# Altium footprint library 晶振SMD-5032.PcbLib: 1 footprints
Each footprint in its own frame and in the unit in brackets; x right, y up, seen from the top. Pads: shape width x height; smd on the part's side, far side on the other; paste and mask are expansions set on the pad; w line width, h text height; cw(c..) or ccw(c..) is an arc to the next point about the centre after c.
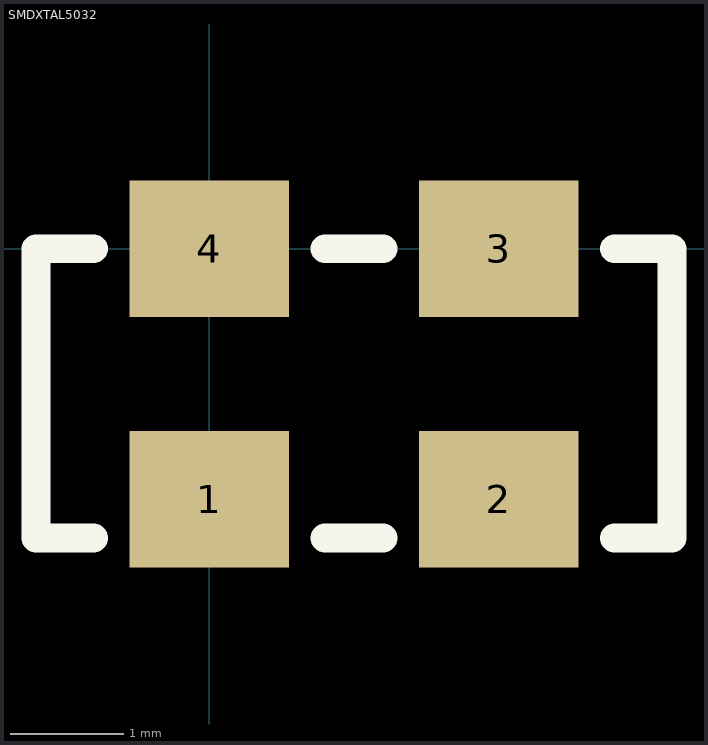
[diagram p0: the footprint, top view; thin cyan lines are the x and y axes]

## SMDXTAL5032 [mm]
pads (4):
  rect 1.4x1.2 smd: 1(0,-2.2) 2(2.54,-2.2) 3(2.54,0) 4(0,0)
Top Overlay:
  lines w0.254: -1.016,-2.54 -1.524,-2.54 -1.524,0 -1.016,0 ; 1.016,-2.54 1.524,-2.54 ; 1.016,0 1.524,0 ; 3.556,-2.54 4.064,-2.54 4.064,0 3.556,0